# Altium footprint library QFN-26_4x4mm.PcbLib: 1 footprints
Each footprint in its own frame and in the unit in brackets; x right, y up, seen from the top. Pads: shape width x height; smd on the part's side, far side on the other; paste and mask are expansions set on the pad; w line width, h text height; cw(c..) or ccw(c..) is an arc to the next point about the centre after c.
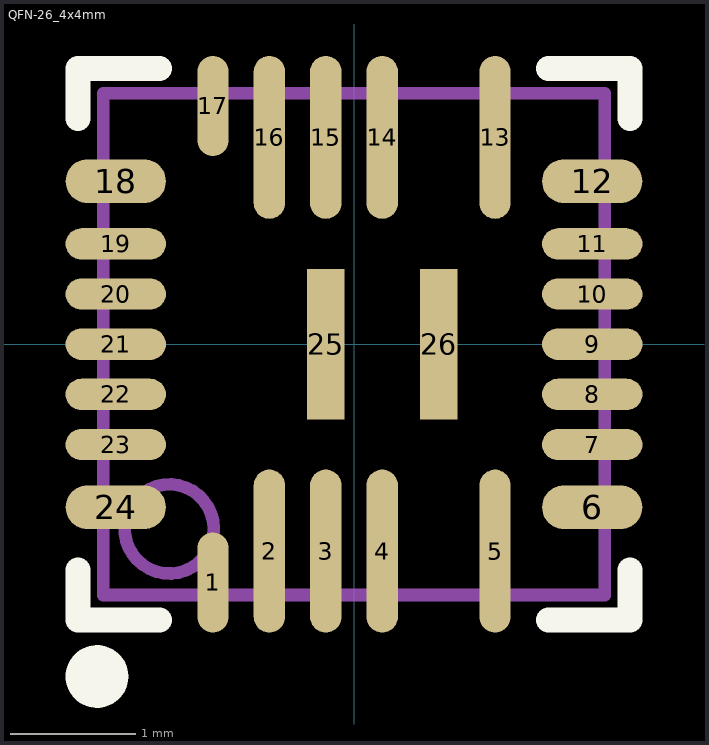
[diagram p0: the footprint, top view; thin cyan lines are the x and y axes]

## QFN-26_4x4mm [mm]
pads (26):
  oval 0.25x0.8 smd mask+0.051: 1(-1.125,-1.9) 17(-1.125,1.9)
  oval 0.25x1.3 smd mask+0.051: 2(-0.675,-1.65) 3(-0.225,-1.65) 4(0.225,-1.65) 5(1.125,-1.65) 13(1.125,1.65) 14(0.225,1.65) 15(-0.225,1.65) 16(-0.675,1.65)
  oval 0.8x0.35 smd mask+0.051: 6(1.9,-1.3) 12(1.9,1.3) 18(-1.9,1.3) 24(-1.9,-1.3)
  oval 0.8x0.25 smd mask+0.051: 7(1.9,-0.8) 8(1.9,-0.4) 9(1.9,0) 10(1.9,0.4) 11(1.9,0.8) 19(-1.9,0.8) 20(-1.9,0.4) 21(-1.9,0) 22(-1.9,-0.4) 23(-1.9,-0.8)
  rect 0.3x1.2 smd mask+0.051: 25(-0.225,0) 26(0.675,0)
Top Overlay:
  circle w0.25: c-2.05,-2.65 r0.125
  lines w0.2: -2.2,-1.8 -2.2,-2.2 -1.55,-2.2 ; -2.2,1.8 -2.2,2.2 -1.55,2.2 ; 1.55,-2.2 2.2,-2.2 2.2,-1.8 ; 1.55,2.2 2.2,2.2 2.2,1.8
Mechanical 13:
  circle w0.1: c-1.473,-1.473 r0.356
  lines w0.1: -2,-2 -2,2 2,2 2,-2 -2,-2